# Altium footprint library KeetV2.PcbLib: 42 footprints (part 1 of 3)
Each footprint in its own frame and in the unit in brackets; x right, y up, seen from the top. Pads: shape width x height; smd on the part's side, far side on the other; paste and mask are expansions set on the pad; w line width, h text height; cw(c..) or ccw(c..) is an arc to the next point about the centre after c.
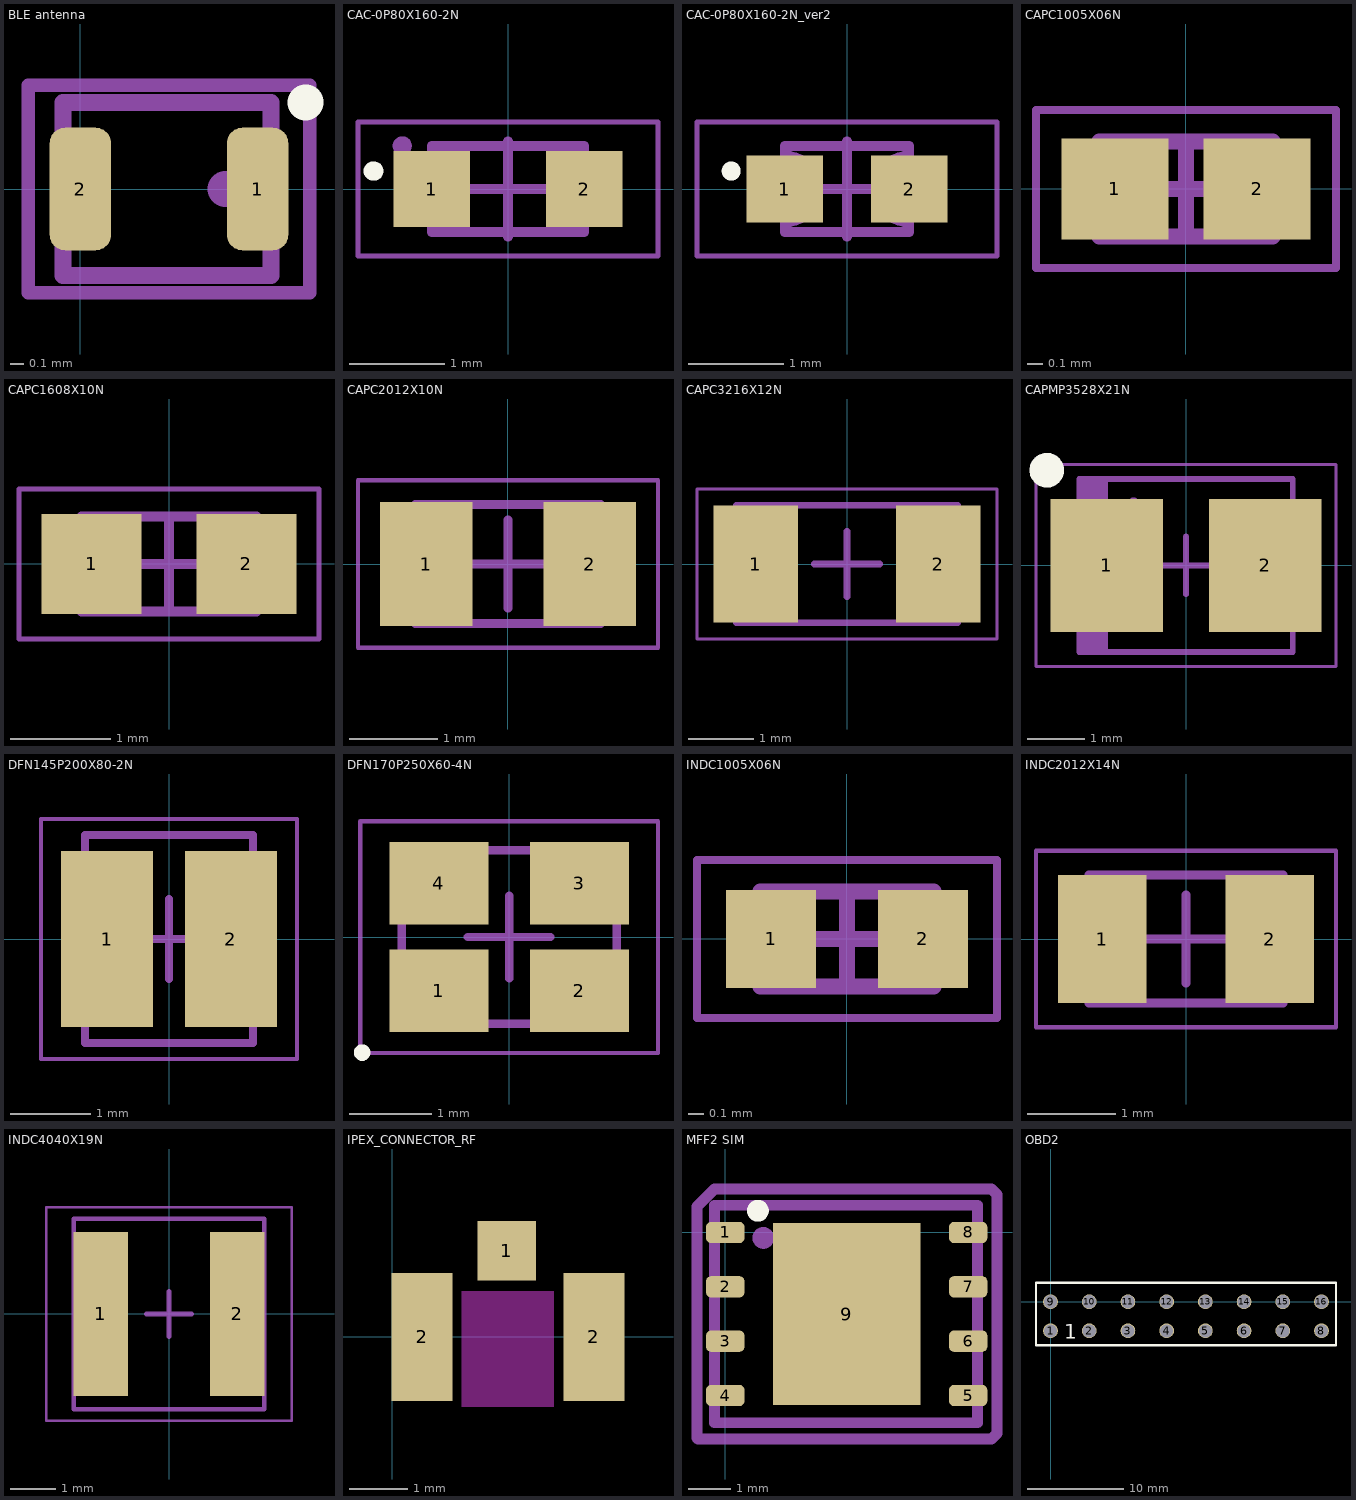
[diagram p0: the footprints below, top view; thin cyan lines are the x and y axes]

## BLE antenna [mm] "antenna bluethooth"
height 0.4
pads (2):
  rrect50% 0.45x0.9 smd: 1(1.3,0) 2(0,0)
Top Overlay:
  circle w0.254: c1.651,0.635 r0.004
Top Courtyard:
  lines w0.1: -0.381,-0.762 -0.381,0.762 1.682,0.762 1.682,-0.762 -0.381,-0.762
Top Assembly:
  circle w0.254: c1.065,0 r0.004
  lines w0.125: -0.127,-0.635 1.397,-0.635 1.397,0.635 -0.127,0.635 -0.127,-0.635
Top Designator:
  text ".Designator" at -6.983,-0.508 h1.52

## CAC-0P80X160-2N [mm] "Chip Array, Concave, 2-Leads, Pitch 0,00mm,  Body 0,80x1,60mm,  IPC Medium Density"
height 0.8
pads (2):
  rect 0.8x0.8 smd: 1(-0.8,0) 2(0.8,0)
Top Overlay:
  circle w0.1: c-1.412,0.188 r0.05
  circle w0.1: c-1.412,0.188 r0.05
  circle w0.1: c-1.404,0.188 r0.05
Top Courtyard:
  lines w0.05: -1.57,-0.7 -1.57,0.7 1.57,0.7 1.57,-0.7 -1.57,-0.7
  lines w0.1: -0.5,0 0.5,0 ; 0,-0.5 0,0.5
Top Assembly:
  circle w0.1: c-1.107,0.451 r0.05
  lines w0.1: -0.8,-0.45 -0.8,-0.35 ccw(c-0.8,0) -0.8,0.35 -0.8,0.45 0.8,0.45 0.8,0.35 ccw(c0.8,0) 0.8,-0.35 0.8,-0.45 -0.8,-0.45
Top Designator:
  text ".Designator" at -7.618,-0.508 h1.52
3D body "CAC-0P80X160-2N.step": height 0.8, standoff 0, extent -0.9,-0.45 0.9,0.45

## CAC-0P80X160-2N_ver2 [mm] "Chip Array, Concave, 2-Leads, Pitch 0,00mm,  Body 0,80x1,60mm,  IPC Medium Density"
height 0.8
pads (2):
  rect 0.8x0.7 smd: 1(-0.65,0) 2(0.65,0)
Top Overlay:
  circle w0.1: c-1.212,0.188 r0.05
Top Courtyard:
  lines w0.05: -1.57,-0.7 1.57,-0.7 1.57,0.7 -1.57,0.7 -1.57,-0.7
  lines w0.1: -0.5,0 0.5,0 ; 0,-0.5 0,0.5
Top Assembly:
  circle w0.1: c-0.62,0.021 r0.05
  lines w0.1: -0.65,-0.45 0.65,-0.45 0.65,-0.35 cw(c0.65,0) 0.65,0.35 0.65,0.45 -0.65,0.45 -0.65,0.35 cw(c-0.65,0) -0.65,-0.35 -0.65,-0.45
Top Designator:
  text ".Designator" at -7.618,-0.508 h1.52
3D body "CAC-0P80X160-2N_ver2.step": height 0.8, standoff 0, extent -0.85,-0.4 0.85,0.4

## CAPC1005X06N [mm] "Chip Capacitor, 0402, 2-Leads, Body 1,02x0,50mm, IPC Medium Density"
height 0.6
pads (2):
  rect 0.68x0.64 smd: 1(-0.45,0) 2(0.45,0)
Top Courtyard:
  lines w0.05: -0.95,-0.5 0.95,-0.5 0.95,0.5 -0.95,0.5 -0.95,-0.5
  lines w0.1: -0.3,0 0.3,0 ; 0,-0.3 0,0.3
Top Assembly:
  lines w0.1: -0.55,-0.3 0.55,-0.3 0.55,0.3 -0.55,0.3 -0.55,-0.3
Top Designator:
  text ".Designator" at -7.618,-0.508 h1.52
3D body "CAPC1005X06N.step": height 0.6, standoff 0, extent -0.55,-0.3 0.55,0.3

## CAPC1608X10N [mm] "capacitor, 0603"
height 0.95
pads (2):
  rect 1x1 smd: 1(-0.775,0) 2(0.775,0)
Top Courtyard:
  lines w0.05: -1.5,-0.75 1.5,-0.75 1.5,0.75 -1.5,0.75 -1.5,-0.75
  lines w0.1: -0.475,0 0.475,0 ; 0,-0.475 0,0.475
Top Assembly:
  lines w0.1: -0.875,-0.475 0.875,-0.475 0.875,0.475 -0.875,0.475 -0.875,-0.475
Top Designator:
  text ".Designator" at -7.618,-0.508 h1.52
3D body "CAPC1708X10N.step": height 0.95, standoff 0, extent -0.875,-0.475 0.875,0.475

## CAPC2012X10N [mm] "Capacitor 0805"
height 0.95
pads (2):
  rect 1.05x1.4 smd: 1(-0.925,0) 2(0.925,0)
Top Courtyard:
  lines w0.05: -1.7,-0.95 1.7,-0.95 1.7,0.95 -1.7,0.95 -1.7,-0.95
  lines w0.1: -0.5,0 0.5,0 ; 0,-0.5 0,0.5
Top Assembly:
  lines w0.1: -1.05,-0.675 1.05,-0.675 1.05,0.675 -1.05,0.675 -1.05,-0.675
Top Designator:
  text ".Designator" at -7.618,-0.508 h1.52
3D body "CAPC2012X10N.step": height 0.95, standoff 0, extent -1.05,-0.675 1.05,0.675

## CAPC3216X12N [mm] "Chip Capacitor, 1206, 2-Leads, Body 3,20x1,60mm, IPC Medium Density"
height 1.25
pads (2):
  rect 1.3x1.8 smd: 1(-1.4,0) 2(1.4,0)
Top Courtyard:
  lines w0.05: -2.3,-1.15 2.3,-1.15 2.3,1.15 -2.3,1.15 -2.3,-1.15
  lines w0.1: -0.5,0 0.5,0 ; 0,-0.5 0,0.5
Top Assembly:
  lines w0.1: -1.7,-0.9 1.7,-0.9 1.7,0.9 -1.7,0.9 -1.7,-0.9
Top Designator:
  text ".Designator" at -7.618,-0.508 h1.52
3D body "CAPC3216X12N.step": height 1.25, standoff 0, extent -1.7,-0.9 1.7,0.9

## CAPMP3528X21N [mm] "Molded Capacitor, 2-Leads, Body 3,50x2,80mm, IPC Medium Density"
height 2.1
pads (2):
  rect 1.95x2.3 smd: 1(-1.375,0) 2(1.375,0)
Top Overlay:
  circle w0.3: c-2.413,1.651 r0.15
Top Courtyard:
  lines w0.05: -2.6,-1.75 2.6,-1.75 2.6,1.75 -2.6,1.75 -2.6,-1.75
  lines w0.1: -0.5,0 0.5,0 ; 0,-0.5 0,0.5
Top Assembly:
  circle w0.1: c-0.907,1.077 r0.05
  rectangle: -1.85,-1.5 -1.352,1.5
  lines w0.1: -1.85,-1.5 1.85,-1.5 1.85,1.5 -1.85,1.5 -1.85,-1.5
Top Designator:
  text ".Designator" at -7.618,-0.508 h1.52
3D body "CAPMP3528X21N.step": height 2.1, standoff 0, extent -2.07,-1.5 2.07,1.5

## DFN145P200X80-2N [mm] "DFN, 2-Leads, Body 2,50x2,00mm, Pitch 1,45mm, IPC Medium Density"
height 0.8
pads (2):
  rect 1.15x2.2 smd: 1(-0.775,0) 2(0.775,0)
Top Courtyard:
  lines w0.05: -1.6,-1.5 -1.6,1.5 1.6,1.5 1.6,-1.5 -1.6,-1.5
  lines w0.1: -0.5,0 0.5,0 ; 0,-0.5 0,0.5
Top Assembly:
  lines w0.1: -1.05,-1.3 1.05,-1.3 1.05,1.3 -1.05,1.3 -1.05,-1.3
Top Designator:
  text ".Designator" at -7.618,-0.508 h1.52
3D body "DFN145P200X80-2N.step": height 0.8, standoff 0, extent -1.155,-1.3 1.155,1.3

## DFN170P250X60-4N [mm] "DFN, 4-Leads, Body 2,00x2,50mm, Pitch 1,70mm, IPC Medium Density"
height 0.6
pads (4):
  rect 1.2x1 smd: 1(-0.85,-0.65) 2(0.85,-0.65) 3(0.85,0.65) 4(-0.85,0.65)
Top Overlay:
  circle w0.1: c-1.778,-1.397 r0.05
Top Courtyard:
  lines w0.05: -1.8,-1.4 1.8,-1.4 1.8,1.4 -1.8,1.4 -1.8,-1.4
  lines w0.1: -0.5,0 0.5,0 ; 0,-0.5 0,0.5
Top Assembly:
  circle w0.1: c-1.052,-0.792 r0.05
  lines w0.1: -1.3,-1.05 1.3,-1.05 1.3,1.05 -1.3,1.05 -1.3,-1.05
Top Designator:
  text ".Designator" at -7.618,-0.508 h1.52
3D body "DFN170P250X60-4N.step": height 0.6, standoff 0, extent -1.3,-1.075 1.3,1.075

## INDC1005X06N [mm] "Chip Inductor, 2-Leads, Body 1,00x0,50mm, IPC Medium Density"
height 0.6
pads (2):
  rect 0.57x0.62 smd: 1(-0.48,0) 2(0.48,0)
Top Courtyard:
  lines w0.05: -0.95,-0.5 -0.95,0.5 0.95,0.5 0.95,-0.5 -0.95,-0.5
  lines w0.1: -0.3,0 0.3,0 ; 0,-0.3 0,0.3
Top Assembly:
  lines w0.1: -0.55,-0.3 -0.55,0.3 0.55,0.3 0.55,-0.3 -0.55,-0.3
Top Designator:
  text ".Designator" at -7.618,-0.508 h1.52
3D body "INDC1005X06N.step": height 0.6, standoff 0, extent -0.55,-0.3 0.55,0.3

## INDC2012X14N [mm] "Chip Inductor, 2-Leads, Body 2,00x1,25mm, IPC Medium Density"
height 1.45
pads (2):
  rect 1x1.45 smd: 1(-0.95,0) 2(0.95,0)
Top Courtyard:
  lines w0.05: -1.7,-1 -1.7,1 1.7,1 1.7,-1 -1.7,-1
  lines w0.1: -0.5,0 0.5,0 ; 0,-0.5 0,0.5
Top Assembly:
  lines w0.1: -1.1,-0.725 -1.1,0.725 1.1,0.725 1.1,-0.725 -1.1,-0.725
Top Designator:
  text ".Designator" at -7.618,-0.508 h1.52
3D body "INDC2012X14N.step": height 1.45, standoff 0, extent -1.1,-0.725 1.1,0.725

## INDC4040X19N [mm] "Chip Inductor, 2-Leads, Body 4,00x4,00mm, IPC Medium Density"
height 1.9
pads (2):
  rect 1.2x3.6 smd: 1(-1.5,0) 2(1.5,0)
Top Courtyard:
  lines w0.05: -2.7,-2.35 2.7,-2.35 2.7,2.35 -2.7,2.35 -2.7,-2.35
  lines w0.1: -0.5,0 0.5,0 ; 0,-0.5 0,0.5
Top Assembly:
  lines w0.1: -2.1,-2.1 2.1,-2.1 2.1,2.1 -2.1,2.1 -2.1,-2.1
Top Designator:
  text ".Designator" at -7.618,-0.508 h1.52
3D body "INDC4040X19N.step": height 1.9, standoff 0, extent -2.1,-2.1 2.1,2.1

## IPEX_CONNECTOR_RF [mm]
height 1.25
pads (3):
  rect 1x1.02 smd: 1(1.965,1.479)
  rect 1.05x2.2 smd: 2(0.508,0) 2(3.464,-0.001)
Keep-Out Layer:
  region: 1.192,-1.201 1.192,0.785 2.771,0.785 2.771,-1.201
Top Designator:
  text ".Designator" at -5.636,-0.508 h1.52
3D body "2337019-1.stp": height 1.23, standoff -0.02, extent 0.465,-1.55 3.465,1.55

## MFF2 SIM [mm] "SIM-E-MFF2-GL footprint"
height 0.75
pads (9):
  rrect50% 0.9x0.5 smd: 1(0,0) 2(0,-1.27) 3(0,-2.54) 4(0,-3.81) 5(5.675,-3.81) 6(5.675,-2.54) 7(5.675,-1.27) 8(5.675,0)
  rect 3.45x4.25 smd: 9(2.838,-1.905)
Top Overlay:
  circle w0.254: c0.762,0.508 r0.127
Top Courtyard:
  lines w0.254: 2.349,-1.714 2.794,-1.714 3.238,-1.714 ; 2.794,-2.159 2.794,-1.27 ; -0.661,-4.8 -0.661,0.609 -0.254,1.016 6.223,1.016 6.35,0.889 6.35,-4.699 6.223,-4.826 -0.635,-4.826 -0.661,-4.8
Top Assembly:
  circle w0.254: c0.889,-0.127 r0.127
  lines w0.254: -0.254,-4.445 -0.254,0.635 5.896,0.635 5.896,-4.445 -0.254,-4.445
Top Designator:
  text ".Designator" at -4.824,-2.413 h1.52
3D body: height 0.75, standoff 0, extent -0.254,-4.441 5.892,0.598

## OBD2 [mm]
pads (16):
  round 1.524 hole 1.35: 1(0,-3) 2(4,-3) 3(8,-3) 4(12,-3) 5(16,-3) 6(20,-3) 7(24,-3) 8(28,-3) 9(0,0) 10(4,0) 11(8,0) 12(12,0) 13(16,0) 14(20,0) 15(24,0) 16(28,0)
Top Overlay:
  lines w0.254: -1.5,1.905 -1.5,-4.5 29.5,-4.5 29.5,1.905 ; -1.5,1.975 29.5,1.975
  text "1" at 1.397,-3.81 h1.52
Top Designator:
  text ".Designator" at 5.336,-1.905 h1.52
3D body "connettore_OBD_pin_invertiti.STEP": height 15.51, standoff -3.61, extent -6.597,-3.395 34.55,22.325